# Altium footprint library 4.02-1.00mm排针-排母.PcbLib: 6 footprints
Each footprint in its own frame and in the unit in brackets; x right, y up, seen from the top. Pads: shape width x height; smd on the part's side, far side on the other; paste and mask are expansions set on the pad; w line width, h text height; cw(c..) or ccw(c..) is an arc to the next point about the centre after c.
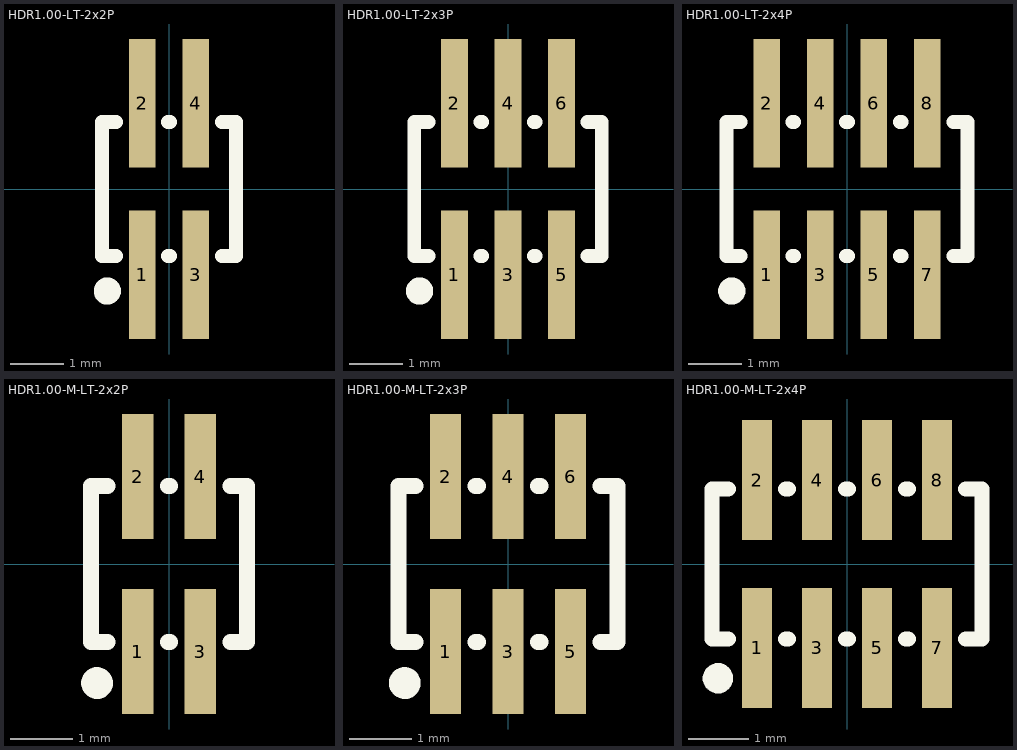
[diagram p0: the footprints below, top view; thin cyan lines are the x and y axes]

## HDR1.00-LT-2x2P [mm] "1.00Pitch 2x2P SMD Header"
pads (4):
  rect 0.5x2.4 smd: 1(-0.5,-1.6) 2(-0.5,1.6) 3(0.5,-1.6) 4(0.5,1.6)
Top Overlay:
  circle w0.254: c-1.151,-1.905 r0.127
  lines w0.254: -0.981,-1.25 -1.25,-1.25 -1.25,1.25 -0.981,1.25 ; -0.019,-1.25 0.019,-1.25 ; -0.019,1.25 0.019,1.25 ; 0.981,-1.25 1.25,-1.25 1.25,1.25 0.981,1.25
3D body "2x02_P1.00m.stp": height 3.6, standoff 0, extent -1,-2.45 1,2.45

## HDR1.00-LT-2x3P [mm] "1.00Pitch 2x3P SMD Header"
pads (6):
  rect 0.5x2.4 smd: 1(-1,-1.6) 2(-1,1.6) 3(0,-1.6) 4(0,1.6) 5(1,-1.6) 6(1,1.6)
Top Overlay:
  circle w0.254: c-1.651,-1.905 r0.127
  lines w0.254: -1.481,-1.25 -1.75,-1.25 -1.75,1.25 -1.481,1.25 ; -0.519,-1.25 -0.481,-1.25 ; -0.519,1.25 -0.481,1.25 ; 0.481,-1.25 0.519,-1.25 ; 0.481,1.25 0.519,1.25 ; 1.481,-1.25 1.75,-1.25 1.75,1.25 1.481,1.25
3D body "2x03_P1.00m.stp": height 3.6, standoff 0, extent -1.5,-2.45 1.5,2.45

## HDR1.00-LT-2x4P [mm] "1.00Pitch 2x4P SMD Header"
pads (8):
  rect 0.5x2.4 smd: 1(-1.5,-1.6) 2(-1.5,1.6) 3(-0.5,-1.6) 4(-0.5,1.6) 5(0.5,-1.6) 6(0.5,1.6) 7(1.5,-1.6) 8(1.5,1.6)
Top Overlay:
  circle w0.254: c-2.151,-1.905 r0.127
  lines w0.254: -1.981,-1.25 -2.25,-1.25 -2.25,1.25 -1.981,1.25 ; -1.019,-1.25 -0.981,-1.25 ; -1.019,1.25 -0.981,1.25 ; -0.019,-1.25 0.019,-1.25 ; -0.019,1.25 0.019,1.25 ; 0.981,-1.25 1.019,-1.25 ; 0.981,1.25 1.019,1.25 ; 1.981,-1.25 2.25,-1.25 2.25,1.25 1.981,1.25
3D body "2x04_P1.00m.stp": height 3.6, standoff 0, extent -2,-2.45 2,2.45

## HDR1.00-M-LT-2x2P [mm] "1.00Pitch 2x2P SMD Socket"
pads (4):
  rect 0.5x2 smd: 1(-0.5,-1.4) 2(-0.5,1.4) 3(0.5,-1.4) 4(0.5,1.4)
Top Overlay:
  circle w0.254: c-1.151,-1.905 r0.127
  lines w0.254: -0.981,-1.25 -1.25,-1.25 -1.25,1.25 -0.981,1.25 ; -0.019,-1.25 0.019,-1.25 ; -0.019,1.25 0.019,1.25 ; 0.981,-1.25 1.25,-1.25 1.25,1.25 0.981,1.25
3D body "2x02_P1.00mm.stp": height 2.4, standoff 0, extent -1.25,-1.972 1.25,1.972

## HDR1.00-M-LT-2x3P [mm] "1.00Pitch 2x3P SMD Socket"
pads (6):
  rect 0.5x2 smd: 1(-1,-1.4) 2(-1,1.4) 3(0,-1.4) 4(0,1.4) 5(1,-1.4) 6(1,1.4)
Top Overlay:
  circle w0.254: c-1.651,-1.905 r0.127
  lines w0.254: -1.481,-1.25 -1.75,-1.25 -1.75,1.25 -1.481,1.25 ; -0.519,-1.25 -0.481,-1.25 ; -0.519,1.25 -0.481,1.25 ; 0.481,-1.25 0.519,-1.25 ; 0.481,1.25 0.519,1.25 ; 1.481,-1.25 1.75,-1.25 1.75,1.25 1.481,1.25
3D body "2x03_P1.00mm.stp": height 2.4, standoff 0, extent -1.75,-1.972 1.75,1.971

## HDR1.00-M-LT-2x4P [mm] "1.00Pitch 2x4P SMD Socket"
pads (8):
  rect 0.5x2 smd: 1(-1.5,-1.4) 2(-1.5,1.4) 3(-0.5,-1.4) 4(-0.5,1.4) 5(0.5,-1.4) 6(0.5,1.4) 7(1.5,-1.4) 8(1.5,1.4)
Top Overlay:
  circle w0.254: c-2.151,-1.905 r0.127
  lines w0.254: -1.981,-1.25 -2.25,-1.25 -2.25,1.25 -1.981,1.25 ; -1.019,-1.25 -0.981,-1.25 ; -1.019,1.25 -0.981,1.25 ; -0.019,-1.25 0.019,-1.25 ; -0.019,1.25 0.019,1.25 ; 0.981,-1.25 1.019,-1.25 ; 0.981,1.25 1.019,1.25 ; 1.981,-1.25 2.25,-1.25 2.25,1.25 1.981,1.25
3D body "2x04_P1.00mm.stp": height 2.4, standoff 0, extent -2.25,-1.972 2.25,1.972